# Altium schematic symbol library RogoIR.SCHLIB: 23 symbols
Pins are listed as number, name and electrical type; pins without a type are passive.

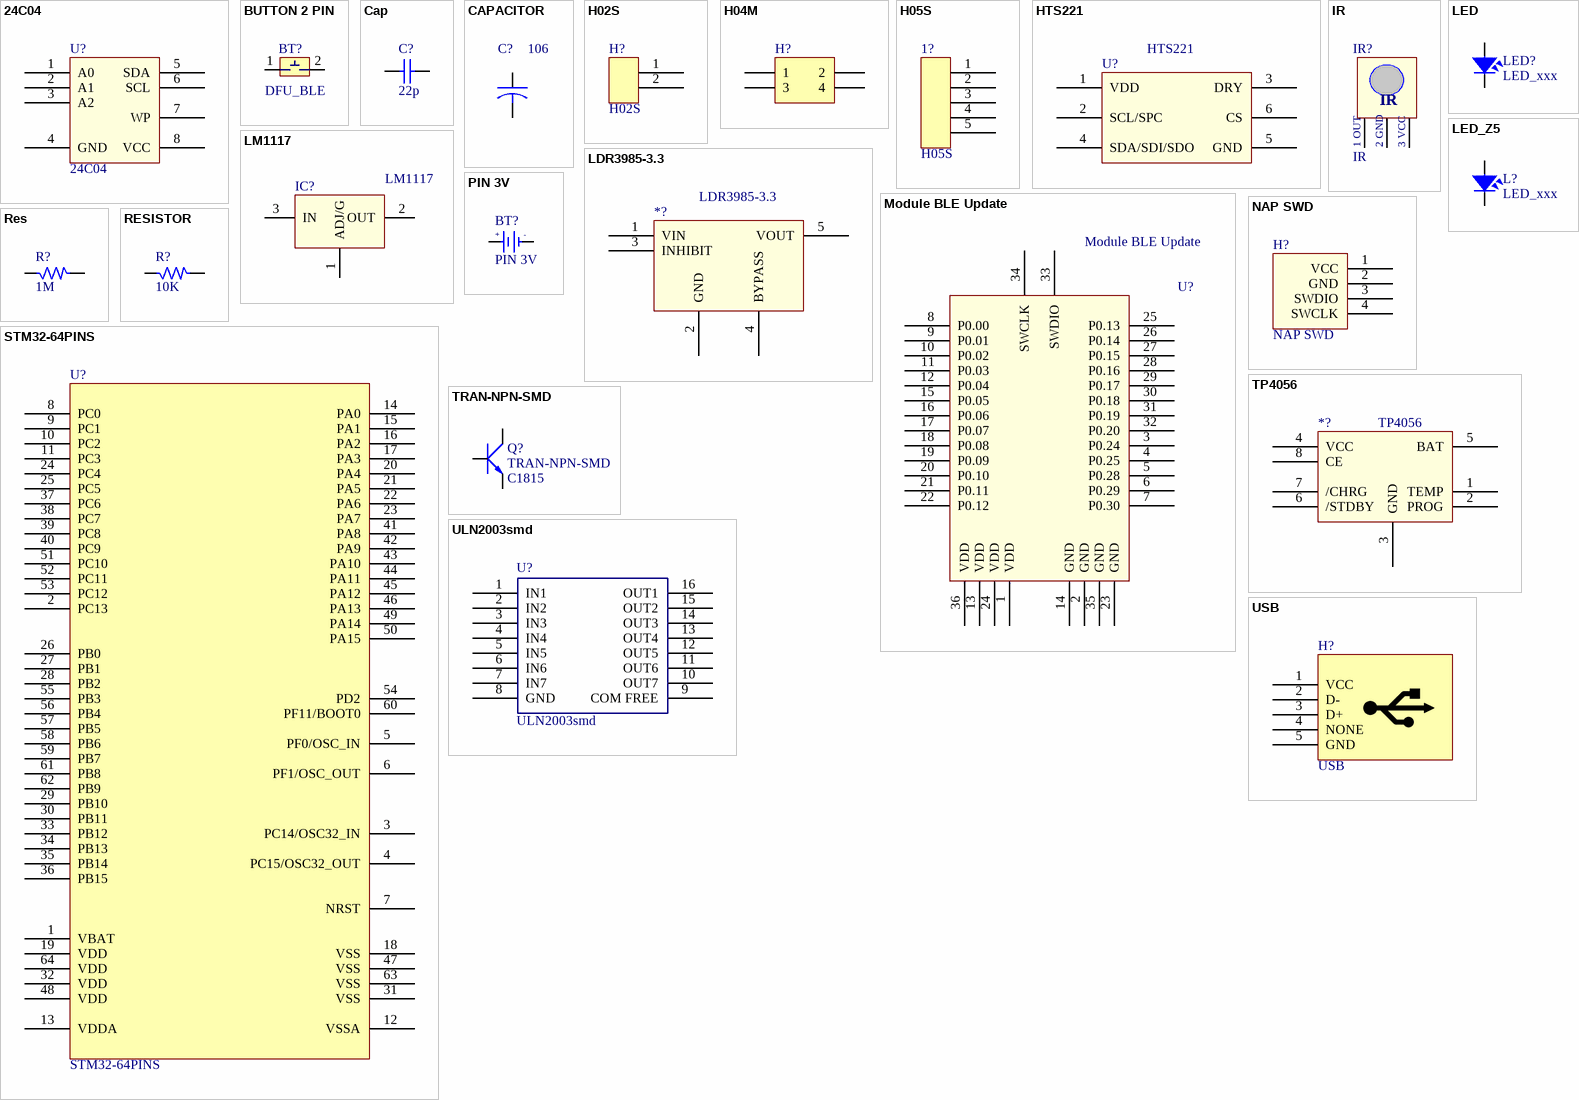
[diagram p0: symbols 24C04 to USB]

## 24C04
designator U?
footprint 24C04SOIC
pins: 1 A0, 2 A1, 3 A2, 4 GND, 5 SDA, 6 SCL, 7 WP, 8 VCC

## BUTTON 2 PIN
designator BT?, comment DFU_BLE
footprint SW2-SMD (Switch SMD type)
pins: 1, 2

## Cap
designator C?, comment 22p
footprint C1206
footprint 0805
pins: 1, 2

## CAPACITOR
designator C?, comment 106
Capacitor
footprint RA75
footprint RA50
footprint 1206
pins: 1, 2

## H02S
designator H?
HEADER, SINGLE
footprint H02SA (HEADER, SINGLE, DISTANCE = 100mil)
pins: 1, 2

## H04M
designator H?  (value not drawn)
HEADER, DOUBLE; LatestRevisionDate: 17-Jul-2002; LatestRevisionNote: Re-released for DXP Platform.; Publisher: Altium Limited
footprint HDR2X2 (Connector; Header; 2x2 Position)
signal-integrity model Connector
footprint Jum2
pins: 1, 2, 3, 4

## H05S
designator 1?
HEADER, SINGLE
footprint H05SA (HEADER, SINGLE, DISTANCE = 100mil)
pins: 1, 2, 3, 4, 5

## HTS221
designator U?
footprint HTS221
pins: 1 VDD, 2 SCL/SPC, 3 DRY, 4 SDA/SDI/SDO, 5 GND, 6 CS

## IR
designator IR?
Receiver Infraed IC
footprint H03SA (HEADER, SINGLE, DISTANCE = 100mil)
pins: 1 Out, 2 GND, 3 VCC
text: 1 OUT; 2 GND; 3 VCC

## LDR3985-3.3
designator *?
footprint LDR3985-3.3 (SOT23, 5-Leads, Body 2.90x2.80mm, Pitch 0.95mm, IPC Medium Density)
pins: 1 VIN, 2 GND, 3 INHIBIT, 4 BYPASS, 5 VOUT

## LED
designator LED?  value LED_xxx  (hidden comment: LED)
LED Single colour Green and Red
footprint 0805 (Compoment SMD 80x50mil)
pins: 1, 2

## LED_Z5
designator L?  value LED_xxx  (hidden comment: LED_Z5)
LED Single colour Green and Red
footprint LED_Z5 (LED phi 5mm)
pins: 1, 2

## LM1117
designator IC?
Available in 1.8V, 2.5V, 2.85V, 3.3V, 5V, and  Adjustable Versions; Value: LM317
footprint lm1117-3.3 (SOT223, 4-Leads, Body 6.5x3.5mm, Pitch 2.3mm, Lead Span 7mm, IPC Medium Density)
pins: 1 ADJ/G, 2 OUT, 3 IN

## Module BLE Update
designator U?
footprint Module Ble
pins: 1 VDD, 2 GND, 3 P0.24, 4 P0.25, 5 P0.28, 6 P0.29, 7 P0.30, 8 P0.00, 9 P0.01, 10 P0.02, 11 P0.03, 12 P0.04, 13 VDD, 14 GND, 15 P0.05, 16 P0.06, 17 P0.07, 18 P0.08, 19 P0.09, 20 P0.10, 21 P0.11, 22 P0.12, 23 GND, 24 VDD, 25 P0.13, 26 P0.14, 27 P0.15, 28 P0.16, 29 P0.17, 30 P0.18, 31 P0.19, 32 P0.20, 33 SWDIO, 34 SWCLK, 35 GND, 36 VDD

## NAP SWD
designator H?
footprint H04SA (HEADER, SINGLE, DISTANCE = 100mil)
pins: 1 VCC, 2 GND, 3 SWDIO, 4 SWCLK

## PIN 3V
designator BT?
Battery 3VDC; Value: PIN 3V
footprint H02MA (HEADER, SINGLE, DISTANCE = 100mil)
pins: 1 +3V, 2 GND
text: +; -

## Res
designator R?, comment 1M
Resistor 1/4W; Value: R1/4W - 1K
footprint SM-1206 (Compoment SMD 120x60mil)
footprint R1/8W (R 1/8W, 2 pin, 300mil)
footprint R1/4W (R 1/4W, 2 Pin, 350mil)
footprint R1/4WD (R 1/4W, 2 Pin, 150mil)
footprint DIEN TRO 1/4 W
footprint SM-0805 (Compoment SMD 80x50mil)
footprint R1/6W
footprint 0805
pins: 1, 2

## RESISTOR
designator R?  value 10K  (hidden comment: RESISTOR)
Resistor 1/4W
footprint SM-1206 (Compoment SMD 120x60mil)
footprint R1/8W (R 1/8W, 2 pin, 300mil)
footprint R1/4W (R 1/4W, 2 Pin, 350mil)
footprint R1/4WD (R 1/4W, 2 Pin, 150mil)
footprint DIEN TRO 1/4 W
footprint R1/6W
footprint 0805
pins: 1, 2

## STM32-64PINS
designator U?
footprint LQFP64Pins
pins: 1 VBAT, 2 PC13, 3 PC14/OSC32_IN, 4 PC15/OSC32_OUT, 5 PF0/OSC_IN, 6 PF1/OSC_OUT, 7 NRST, 8 PC0, 9 PC1, 10 PC2, 11 PC3, 12 VSSA, 13 VDDA, 14 PA0, 15 PA1, 16 PA2, 17 PA3, 18 VSS, 19 VDD, 20 PA4, 21 PA5, 22 PA6, 23 PA7, 24 PC4, 25 PC5, 26 PB0, 27 PB1, 28 PB2, 29 PB10, 30 PB11, 31 VSS, 32 VDD, 33 PB12, 34 PB13, 35 PB14, 36 PB15, 37 PC6, 38 PC7, 39 PC8, 40 PC9, 41 PA8, 42 PA9, 43 PA10, 44 PA11, 45 PA12, 46 PA13, 47 VSS, 48 VDD, 49 PA14, 50 PA15, 51 PC10, 52 PC11, 53 PC12, 54 PD2, 55 PB3, 56 PB4, 57 PB5, 58 PB6, 59 PB7, 60 PF11/BOOT0, 61 PB8, 62 PB9, 63 VSS, 64 VDD

## TP4056
designator *?
footprint TP4056 (SOP, 8-Leads, Body 4.90x3.90mm, Pitch 1.27mm, IPC Medium Density)
pins: 1 TEMP, 2 PROG, 3 GND, 4 VCC, 5 BAT, 6 /STDBY, 7 /CHRG, 8 CE

## TRAN-NPN-SMD
designator Q?  value C1815
NPN 600mW, ECB
footprint TRAN-NPN-SMD (SOT-23; 3 Leads; Body 3.0 x 2.5 mm, inc. leads (LxW max))
pins: 1 B, 2 E, 3 C

## ULN2003smd
designator U?
footprint ULN2003-smd16P (Small Outline; 16 Leads; Body Width 5.6 mm; Pitch 1.27 mm)
pins: 1 IN1, 2 IN2, 3 IN3, 4 IN4, 5 IN5, 6 IN6, 7 IN7, 8 GND, 9 COM FREE, 10 OUT7, 11 OUT6, 12 OUT5, 13 OUT4, 14 OUT3, 15 OUT2, 16 OUT1

## USB
designator H?
USB conector
footprint USB-B-Mini
footprint Micro_USB
pins: 0 6 hidden, 1 VCC, 2 D-, 3 D+, 4 NONE, 5 GND